# Altium schematic symbol library memory_eeprom_1wire.SchLib: 3 symbols
Pins are listed as number, name and electrical type; pins without a type are passive.

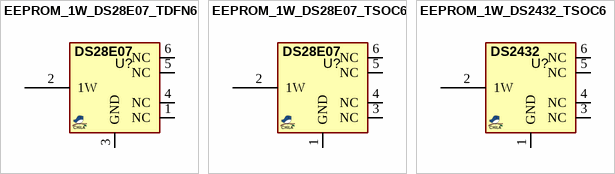
[diagram p0: symbols EEPROM_1W_DS28E07_TDFN6 to EEPROM_1W_DS2432_TSOC6]

## EEPROM_1W_DS28E07_TDFN6
designator U?, comment DS28E07  (value not drawn)
EEPROM, 1WIRE, 1Kbit, 125Kbps, TDFN6; MANF: Maxim; MANF_P#: DS28E07P+; PARAM2: 3~5.25VCC; PARAM: 1Kb, -40~85°C; Value: DS28E07
footprint SON95_6T_3030 (Pitch: 0.95mm 3x3x1.1mm)
pins: 1 NC, 2 1W, 3 GND, 4 NC, 5 NC, 6 NC

## EEPROM_1W_DS28E07_TSOC6
designator U?, comment DS28E07  (value not drawn)
EEPROM, 1WIRE, 1Kbit, 125Kbps, TSOC6; MANF: Maxim; MANF_P#: DS28E07P+; PARAM2: 3~5.25VCC; PARAM: 1Kb, -40~85°C; Value: DS28E07
footprint SOC127_6 (TSOC-6, 1.27mm pitch, 4x4mm)
pins: 1 GND, 2 1W, 3 NC, 4 NC, 5 NC, 6 NC

## EEPROM_1W_DS2432_TSOC6
designator U?, comment DS2432  (value not drawn)
EEPROM, 1WIRE, 1Kbit, 90Kbps, TSOC6; MANF: Maxim; MANF_P#: DS2432P+; PARAM2: 2.8~5.25VCC; PARAM: 1Kb, -40~85°C; Value: DS2432
footprint SOC127_6 (TSOC-6, 1.27mm pitch, 4x4mm)
pins: 1 GND, 2 1W, 3 NC, 4 NC, 5 NC, 6 NC